# Altium schematic symbol library CMI-9605IC-0380T.SchLib: 2 symbols
Pins are listed as number, name and electrical type; pins without a type are passive.

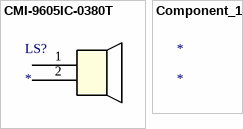
[diagram p0: symbols CMI-9605IC-0380T to Component_1]

## CMI-9605IC-0380T
designator LS?
No Description Available; Mfr_Name: CUI Devices; RefDes: RefDes; Type: Type
footprint CMI-9605IC_CUD
pins: 1, 2

## Component_1
designator *